# Altium integrated library W63CH2MBVACE.IntLib: 1 symbol
Pins are listed as number, name and electrical type; pins without a type are passive.

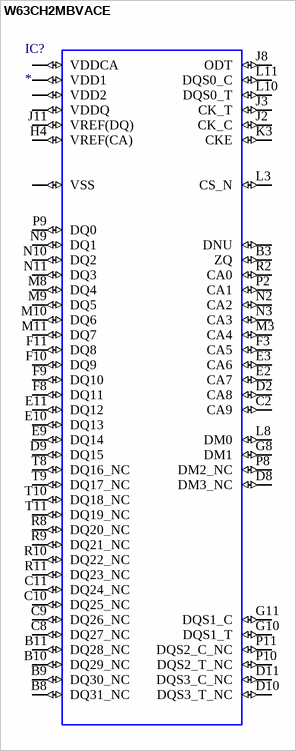
[diagram p0: symbol W63CH2MBVACE]

## W63CH2MBVACE
designator IC?
SDRAM - Mobile LPDDR3 Memory IC 4Gb (128M x 32) Parallel 933MHz 178-VFBGA (11x11.5); MF: Winbond Electronics; MP: W63CH2MBVACE; Package: VFBGA-178 Winbond Electronics; Value: *; Availability: Not in stock; SnapEDA_Link: https://www.snapeda.com/parts/W63CH2MBVACE/Winbond%20Electronics/view-part/4785003/?ref=snap; Price: None; Check_prices: https://www.snapeda.com/parts/W63CH2MBVACE/Winbond%20Electronics/view-part/4785003/?ref=eda
footprint W63CH2MBVACE
pins: A1 DNU (io), A2 DNU (io), A3 VDD1 (io), A4 VDD1 (io), A5 VDD1 (io), A6 VDD1 (io), A8 VDD2 (io), A9 VDD2 (io), A10 VDD1 (io), A11 VDDQ (io), A12 DNU (io), A13 DNU (io), B1 DNU (io), B2 VSS (io), B3 ZQ (io), B5 VSS (io), B6 VSS (io), B8 DQ31_NC (io), B9 DQ30_NC (io), B10 DQ29_NC (io), B11 DQ28_NC (io), B12 VSS (io), B13 DNU (io), C2 CA9 (io), C3 VSS (io), C5 VSS (io), C6 VSS (io), C8 DQ27_NC (io), C9 DQ26_NC (io), C10 DQ25_NC (io), C11 DQ24_NC (io), C12 VDDQ (io), D2 CA8 (io), D3 VSS (io), D4 VDD2 (io), D5 VDD2 (io), D6 VDD2 (io), D8 DM3_NC (io), D9 DQ15 (io), D10 DQS3_T_NC (io), D11 DQS3_C_NC (io), D12 VSS (io), E2 CA7 (io), E3 CA6 (io), E4 VSS (io), E5 VSS (io), E6 VSS (io), E8 VDDQ (io), E9 DQ14 (io), E10 DQ13 (io), E11 DQ12 (io), E12 VDDQ (io), F2 VDDCA (io), F3 CA5 (io), F4 VSS (io), F5 VSS (io), F6 VSS (io), F8 DQ11 (io), F9 DQ10 (io), F10 DQ9 (io), F11 DQ8 (io), F12 VSS (io), G2 VDDCA (io), G3 VSS (io), G4 VSS (io), G5 VDD2 (io), G6 VSS (io), G8 DM1 (io), G9 VSS (io), G10 DQS1_T (io), G11 DQS1_C (io), G12 VDDQ (io), H2 VSS (io), H3 VDDCA (io), H4 VREF(CA) (io), H5 VDD2 (io), H6 VDD2 (io), H8 VDDQ (io), H9 VDDQ (io), H10 VSS (io), H11 VDDQ (io), H12 VDD2 (io), J2 CK_C (io), J3 CK_T (io), J4 VSS (io), J5 VDD2 (io), J6 VDD2 (io), J8 ODT (io), J9 VDDQ (io), J10 VDDQ (io), J11 VREF(DQ) (io), J12 VSS (io), K2 VSS (io), K3 CKE (io), K5 VDD2 (io), K6 VDD2 (io), K8 VDDQ (io), K10 VSS (io), K11 VDDQ (io), K12 VDD2 (io), L2 VDDCA (io), L3 CS_N (io), L5 VDD2 (io), L6 VSS (io), L8 DM0 (io), L9 VSS (io), L10 DQS0_T (io), L11 DQS0_C (io), L12 VDDQ (io), M2 VDDCA (io), M3 CA4 (io), M4 VSS (io), M5 VSS (io), M6 VSS (io), M8 DQ4 (io), M9 DQ5 (io), M10 DQ6 (io), M11 DQ7 (io), M12 VSS (io), N2 CA2 (io), N3 CA3 (io), N4 VSS (io), N5 VSS (io), N6 VSS (io), N8 VDDQ (io), N9 DQ1 (io), N10 DQ2 (io), N11 DQ3 (io), N12 VDDQ (io), P2 CA1 (io), P3 VSS (io), P4 VDD2 (io), P5 VDD2 (io), P6 VDD2 (io), P8 DM2_NC (io), P9 DQ0 (io), P10 DQS2_T_NC (io), P11 DQS2_C_NC (io), P12 VSS (io), R2 CA0 (io), R4 VSS (io), R5 VSS (io), R6 VSS (io), R8 DQ20_NC (io), R9 DQ21_NC (io), R10 DQ22_NC (io), R11 DQ23_NC (io), R12 VDDQ (io), T1 DNU (io), T2 VSS (io), T3 VSS (io), T4 VSS (io), T5 VSS (io), T6 VSS (io), T8 DQ16_NC (io), T9 DQ17_NC (io), T10 DQ18_NC (io), T11 DQ19_NC (io), T12 VSS (io), T13 DNU (io), U1 DNU (io), U2 DNU (io), U3 VDD1 (io), U4 VDD1 (io), U5 VDD1 (io), U6 VDD1 (io), U8 VDD2 (io), U9 VDD2 (io), U10 VDD1 (io), U11 VDDQ (io), U12 DNU (io), U13 DNU (io)